# EAGLE library part ATMEGA328PB-AU (library sapflow)
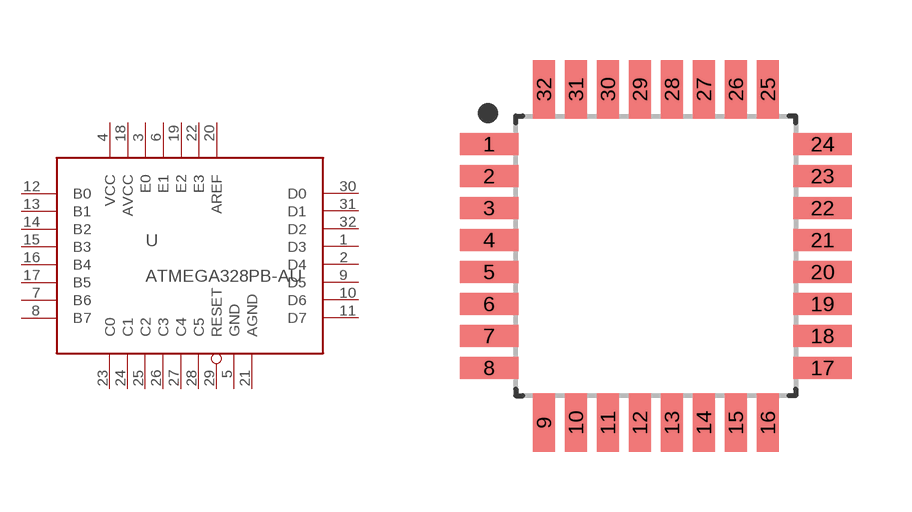
[diagram p0: symbol with the pads of QFP80P900X900X120-32N; footprint QFP80P900X900X120-32N]

Designator prefix -

## ATMEGA328PB-AU  [QFP80P900X900X120-32N]
1  D3
2  D4
3  E0
4  VCC  pwr
5  GND  pwr
6  E1
7  B6
8  B7
9  D5
10  D6
11  D7
12  B0
13  B1
14  B2
15  B3
16  B4
17  B5
18  AVCC  pwr
19  E2
20  AREF  pwr
21  AGND  pwr
22  E3
23  C0
24  C1
25  C2
26  C3
27  C4
28  C5
29  RESET
30  D0
31  D1
32  D2

## Footprint QFP80P900X900X120-32N (pad centres in mm)
32-QFP, 0.80 mm pitch, 9.00 mm span, 7.00 X 7.00 X 1.20 mm body 32-pin QFP package with 0.80 mm pitch, 9.00 mm lead span1 X 9.00 mm lead span2 with body size 7.00 X 7.00 X 1.20 mm
smd 1.469 x 0.547: 1 -4.171,2.8; 2 -4.171,2; 3 -4.171,1.2; 4 -4.171,0.4; 5 -4.171,-0.4; 6 -4.171,-1.2; 7 -4.171,-2; 8 -4.171,-2.8; 17 4.171,-2.8; 18 4.171,-2; 19 4.171,-1.2; 20 4.171,-0.4; 21 4.171,0.4; 22 4.171,1.2; 23 4.171,2; 24 4.171,2.8
smd 0.547 x 1.469: 9 -2.8,-4.171; 10 -2,-4.171; 11 -1.2,-4.171; 12 -0.4,-4.171; 13 0.4,-4.171; 14 1.2,-4.171; 15 2,-4.171; 16 2.8,-4.171; 25 2.8,4.171; 26 2,4.171; 27 1.2,4.171; 28 0.4,4.171; 29 -0.4,4.171; 30 -1.2,4.171; 31 -2,4.171; 32 -2.8,4.171